# Altium integrated library Lattice ORCA Series 3.IntLib: 93 symbols (part 14 of 14)
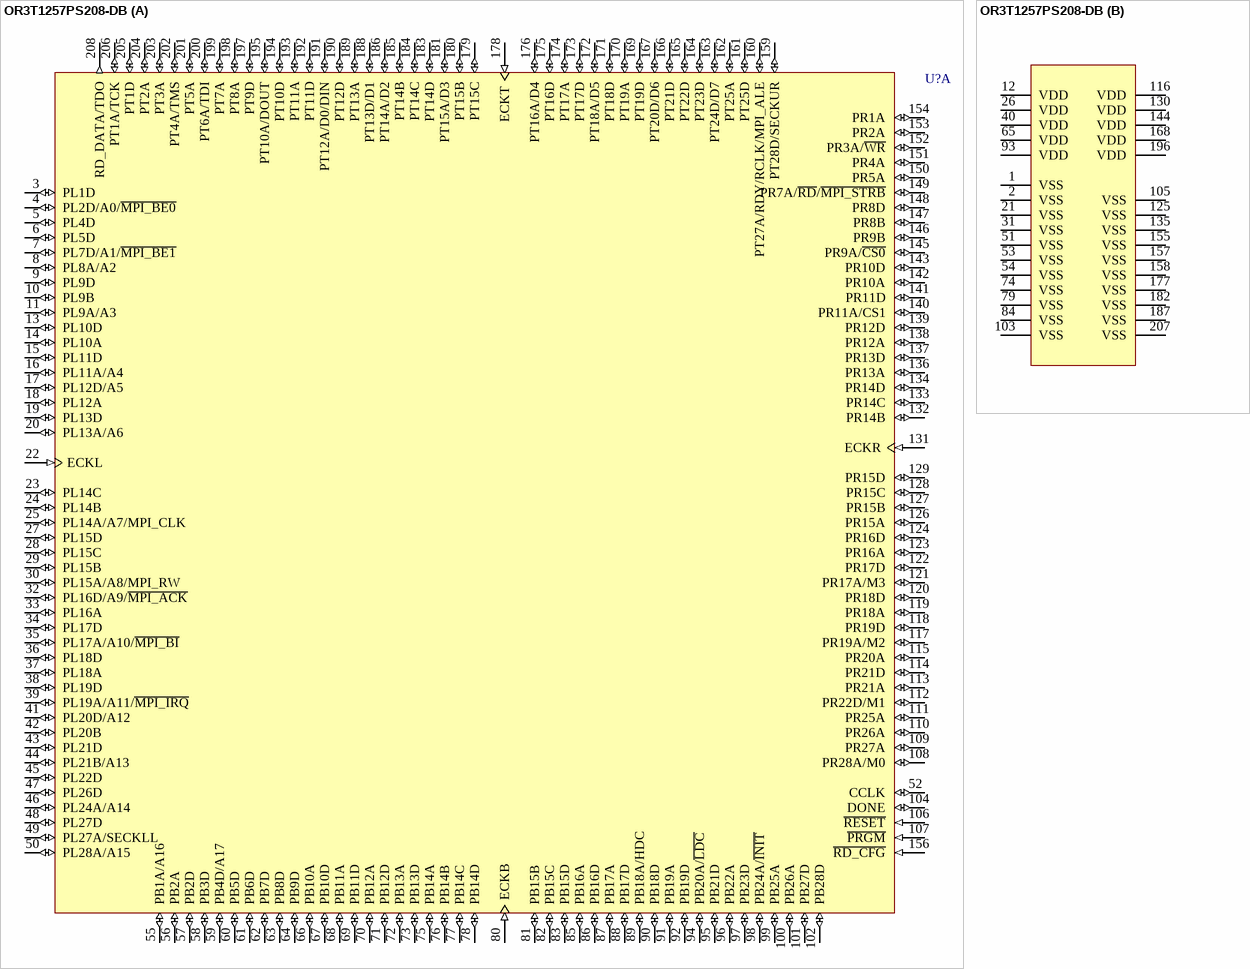
[diagram p149: symbol OR3T1257PS208-DB]

## OR3T1257PS208-DB
designator U?
ORCA Series 3T FPGA: 3.3 V, Commercial Grade, 452 I/Os.; Published: 21-May-2003; LatestRevisionDate: 13-Apr-2006; LatestRevisionNote: IPC-7351 Footprint Added.; DatasheetVersion: Dec-2002; PackageVersion: pkg_32, Aug-2005; PackageReference: PQFP208; Publisher: Altium Limited; PackageDescription: 208-Pin Plastic Quad Flat Pack (PQFP208); Code_JEDEC: MO-143-FAI; ComponentLink1Description: Manufacturer Link; ComponentLink1URL: http://www.latticesemi.com/products/fpga/orca/orca3/index.cfm; ComponentLink2Description: Datasheet; ComponentLink2URL: http://www.latticesemi.com/account/_download.cfm?AMID=3974; ComponentLink3Description: Lattice Login; ComponentLink3URL: http://www.latticesemi.com/account/login.cfm
footprint PQFP208_N (Shrink QFP, 208-Leads, Body 28x28mm, Pitch 0.5mm, IPC Medium Density)
footprint PQFP208_L (Shrink QFP, 208-Leads, Body 28x28mm, Pitch 0.5mm, IPC High Density)
footprint PQFP208_M (Shrink QFP, 208-Leads, Body 28x28mm, Pitch 0.5mm, IPC Low Density)
3D model OR3T125-PQFP208 (208-Pin Plastic Quad Flat Pack (PQFP208))
part A pins: 3 PL1D (io), 4 PL2D/A0/~{MPI_BE0} (io), 5 PL4D (io), 6 PL5D (io), 7 PL7D/A1/~{MPI_BE1} (io), 8 PL8A/A2 (io), 9 PL9D (io), 10 PL9B (io), 11 PL9A/A3 (io), 13 PL10D (io), 14 PL10A (io), 15 PL11D (io), 16 PL11A/A4 (io), 17 PL12D/A5 (io), 18 PL12A (io), 19 PL13D (io), 20 PL13A/A6 (io), 22 ECKL (in), 23 PL14C (io), 24 PL14B (io), 25 PL14A/A7/MPI_CLK (io), 27 PL15D (io), 28 PL15C (io), 29 PL15B (io), 30 PL15A/A8/MPI_RW (io), 32 PL16D/A9/~{MPI_ACK} (io), 33 PL16A (io), 34 PL17D (io), 35 PL17A/A10/~{MPI_BI} (io), 36 PL18D (io), 37 PL18A (io), 38 PL19D (io), 39 PL19A/A11/~{MPI_IRQ} (io), 41 PL20D/A12 (io), 42 PL20B (io), 43 PL21D (io), 44 PL21B/A13 (io), 45 PL22D (io), 46 PL24A/A14 (io), 47 PL26D (io), 48 PL27D (io), 49 PL27A/SECKLL (io), 50 PL28A/A15 (io), 52 CCLK (io), 55 PB1A/A16 (io), 56 PB2A (io), 57 PB2D (io), 58 PB3D (io), 59 PB4D/A17 (io), 60 PB5D (io), 61 PB6D (io), 62 PB7D (io), 63 PB8D (io), 64 PB9D (io), 66 PB10A (io), 67 PB10D (io), 68 PB11A (io), 69 PB11D (io), 70 PB12A (io), 71 PB12D (io), 72 PB13A (io), 73 PB13D (io), 75 PB14A (io), 76 PB14B (io), 77 PB14C (io), 78 PB14D (io), 80 ECKB (in), 81 PB15B (io), 82 PB15C (io), 83 PB15D (io), 85 PB16A (io), 86 PB16D (io), 87 PB17A (io), 88 PB17D (io), 89 PB18A/HDC (io), 90 PB18D (io), 91 PB19A (io), 92 PB19D (io), 94 PB20A/~{LDC} (io), 95 PB21D (io), 96 PB22A (io), 97 PB23D (io), 98 PB24A/~{INIT} (io), 99 PB25A (io), 100 PB26A (io), 101 PB27D (io), 102 PB28D (io), 104 DONE (io), 106 ~{RESET} (in), 107 ~{PRGM} (in), 108 PR28A/M0 (io), 109 PR27A (io), 110 PR26A (io), 111 PR25A (io), 112 PR22D/M1 (io), 113 PR21A (io), 114 PR21D (io), 115 PR20A (io), 117 PR19A/M2 (io), 118 PR19D (io), 119 PR18A (io), 120 PR18D (io), 121 PR17A/M3 (io), 122 PR17D (io), 123 PR16A (io), 124 PR16D (io), 126 PR15A (io), 127 PR15B (io), 128 PR15C (io), 129 PR15D (io), 131 ECKR (in), 132 PR14B (io), 133 PR14C (io), 134 PR14D (io), 136 PR13A (io), 137 PR13D (io), 138 PR12A (io), 139 PR12D (io), 140 PR11A/CS1 (io), 141 PR11D (io), 142 PR10A (io), 143 PR10D (io), 145 PR9A/~{CS0} (io), 146 PR9B (io), 147 PR8B (io), 148 PR8D (io), 149 PR7A/~{RD}/~{MPI_STRB} (io), 150 PR5A (io), 151 PR4A (io), 152 PR3A/~{WR} (io), 153 PR2A (io), 154 PR1A (io), 156 ~{RD_CFG} (in), 159 PT28D/SECKUR (io), 160 PT27A/RDY/RCLK/MPI_ALE (io), 161 PT25D (io), 162 PT25A (io), 163 PT24D/D7 (io), 164 PT23D (io), 165 PT22D (io), 166 PT21D (io), 167 PT20D/D6 (io), 169 PT19D (io), 170 PT19A (io), 171 PT18D (io), 172 PT18A/D5 (io), 173 PT17D (io), 174 PT17A (io), 175 PT16D (io), 176 PT16A/D4 (io), 178 ECKT (in), 179 PT15C (io), 180 PT15B (io), 181 PT15A/D3 (io), 183 PT14D (io), 184 PT14C (io), 185 PT14B (io), 186 PT14A/D2 (io), 188 PT13D/D1 (io), 189 PT13A (io), 190 PT12D (io), 191 PT12A/D0/DIN (io), 192 PT11D (io), 193 PT11A (io), 194 PT10D (io), 195 PT10A/DOUT (io), 197 PT9D (io), 198 PT8A (io), 199 PT7A (io), 200 PT6A/TDI (io), 201 PT5A (io), 202 PT4A/TMS (io), 203 PT3A (io), 204 PT2A (io), 205 PT1D (io), 206 PT1A/TCK (io), 208 RD_DATA/TDO (out)
part B pins: 1 VSS (power), 2 VSS (power), 12 VDD (power), 21 VSS (power), 26 VDD (power), 31 VSS (power), 40 VDD (power), 51 VSS (power), 53 VSS (power), 54 VSS (power), 65 VDD (power), 74 VSS (power), 79 VSS (power), 84 VSS (power), 93 VDD (power), 103 VSS (power), 105 VSS (power), 116 VDD (power), 125 VSS (power), 130 VDD (power), 135 VSS (power), 144 VDD (power), 155 VSS (power), 157 VSS (power), 158 VSS (power), 168 VDD (power), 177 VSS (power), 182 VSS (power), 187 VSS (power), 196 VDD (power), 207 VSS (power)

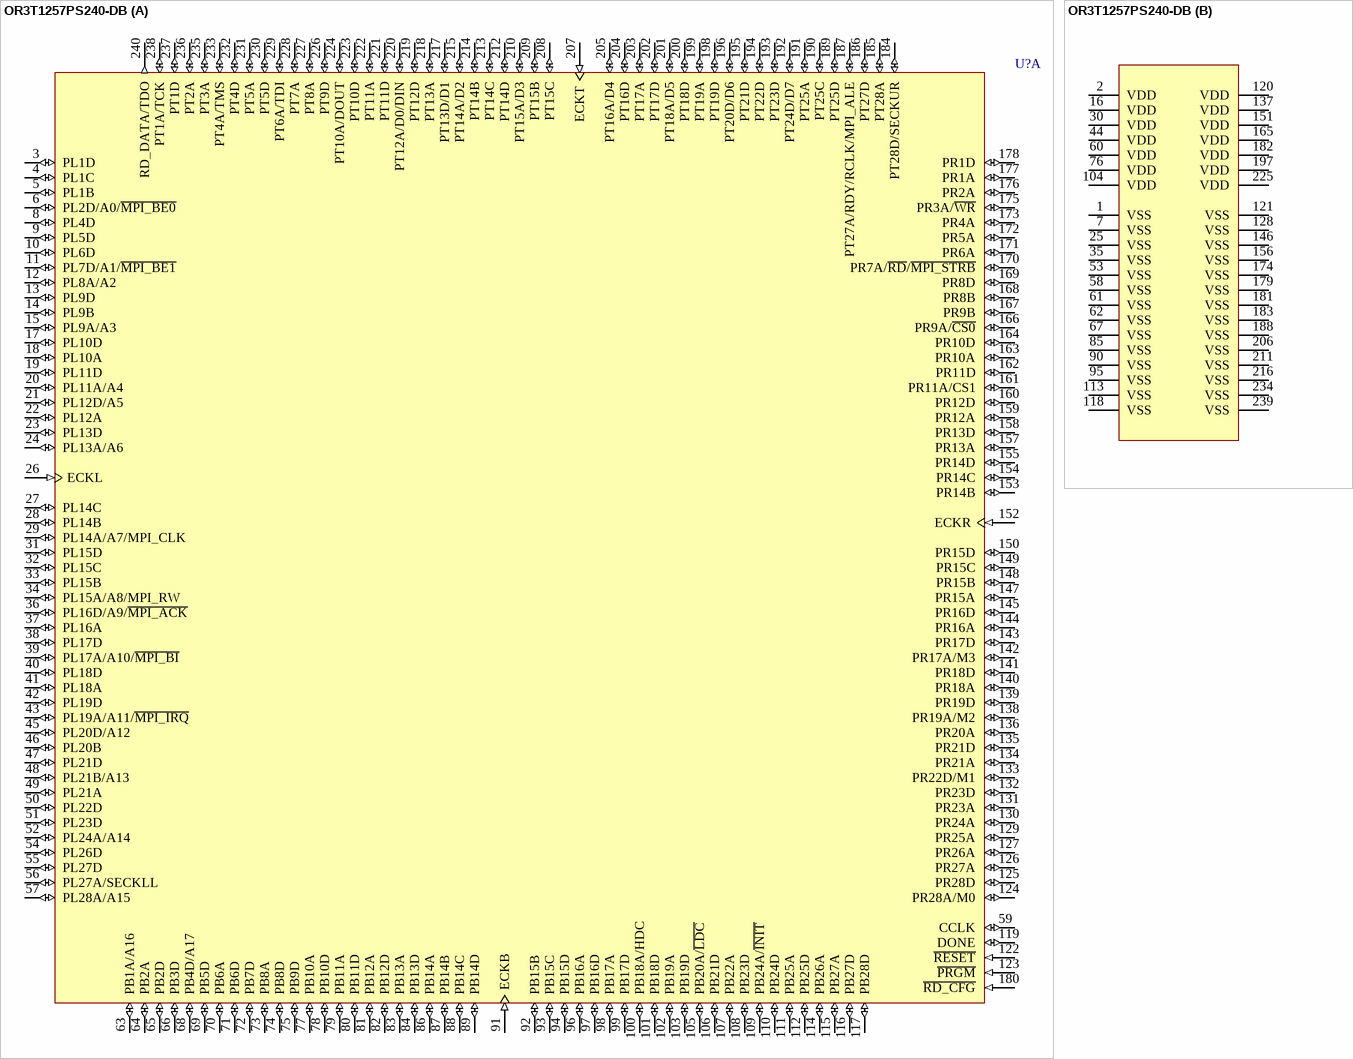
[diagram p136: symbol OR3T1257PS240-DB]

## OR3T1257PS240-DB
designator U?
ORCA Series 3T FPGA: 3.3 V, Commercial Grade, 452 I/Os.; Published: 21-May-2003; LatestRevisionDate: 13-Apr-2006; LatestRevisionNote: IPC-7351 Footprint Added.; DatasheetVersion: Dec-2002; PackageVersion: pkg_32, Aug-2005; PackageReference: PQFP240; Publisher: Altium Limited; PackageDescription: 240-Pin Shrink Quad Flat Pack 0.5 mm Pitch; ComponentLink1Description: Manufacturer Link; ComponentLink1URL: http://www.latticesemi.com/products/fpga/orca/orca3/index.cfm; ComponentLink2Description: Datasheet; ComponentLink2URL: http://www.latticesemi.com/account/_download.cfm?AMID=3974; ComponentLink3Description: Lattice Login; ComponentLink3URL: http://www.latticesemi.com/account/login.cfm
footprint PQFP240_N (Shrink QFP, 240-Leads, Body 32x32mm, Pitch 0.5mm, IPC Medium Density)
footprint PQFP240_L (Shrink QFP, 240-Leads, Body 32x32mm, Pitch 0.5mm, IPC High Density)
footprint PQFP240_M (Shrink QFP, 240-Leads, Body 32x32mm, Pitch 0.5mm, IPC Low Density)
3D model OR3T125-PQFP240 (240-Pin Shrink Quad Flat Pack 0.5 mm Pitch)
part A pins: 3 PL1D (io), 4 PL1C (io), 5 PL1B (io), 6 PL2D/A0/~{MPI_BE0} (io), 8 PL4D (io), 9 PL5D (io), 10 PL6D (io), 11 PL7D/A1/~{MPI_BE1} (io), 12 PL8A/A2 (io), 13 PL9D (io), 14 PL9B (io), 15 PL9A/A3 (io), 17 PL10D (io), 18 PL10A (io), 19 PL11D (io), 20 PL11A/A4 (io), 21 PL12D/A5 (io), 22 PL12A (io), 23 PL13D (io), 24 PL13A/A6 (io), 26 ECKL (in), 27 PL14C (io), 28 PL14B (io), 29 PL14A/A7/MPI_CLK (io), 31 PL15D (io), 32 PL15C (io), 33 PL15B (io), 34 PL15A/A8/MPI_RW (io), 36 PL16D/A9/~{MPI_ACK} (io), 37 PL16A (io), 38 PL17D (io), 39 PL17A/A10/~{MPI_BI} (io), 40 PL18D (io), 41 PL18A (io), 42 PL19D (io), 43 PL19A/A11/~{MPI_IRQ} (io), 45 PL20D/A12 (io), 46 PL20B (io), 47 PL21D (io), 48 PL21B/A13 (io), 49 PL21A (io), 50 PL22D (io), 51 PL23D (io), 52 PL24A/A14 (io), 54 PL26D (io), 55 PL27D (io), 56 PL27A/SECKLL (io), 57 PL28A/A15 (io), 59 CCLK (io), 63 PB1A/A16 (io), 64 PB2A (io), 65 PB2D (io), 66 PB3D (io), 68 PB4D/A17 (io), 69 PB5D (io), 70 PB6A (io), 71 PB6D (io), 72 PB7D (io), 73 PB8A (io), 74 PB8D (io), 75 PB9D (io), 77 PB10A (io), 78 PB10D (io), 79 PB11A (io), 80 PB11D (io), 81 PB12A (io), 82 PB12D (io), 83 PB13A (io), 84 PB13D (io), 86 PB14A (io), 87 PB14B (io), 88 PB14C (io), 89 PB14D (io), 91 ECKB (in), 92 PB15B (io), 93 PB15C (io), 94 PB15D (io), 96 PB16A (io), 97 PB16D (io), 98 PB17A (io), 99 PB17D (io), 100 PB18A/HDC (io), 101 PB18D (io), 102 PB19A (io), 103 PB19D (io), 105 PB20A/~{LDC} (io), 106 PB21D (io), 107 PB22A (io), 108 PB23D (io), 109 PB24A/~{INIT} (io), 110 PB24D (io), 111 PB25A (io), 112 PB25D (io), 114 PB26A (io), 115 PB27A (io), 116 PB27D (io), 117 PB28D (io), 119 DONE (io), 122 ~{RESET} (in), 123 ~{PRGM} (in), 124 PR28A/M0 (io), 125 PR28D (io), 126 PR27A (io), 127 PR26A (io), 129 PR25A (io), 130 PR24A (io), 131 PR23A (io), 132 PR23D (io), 133 PR22D/M1 (io), 134 PR21A (io), 135 PR21D (io), 136 PR20A (io), 138 PR19A/M2 (io), 139 PR19D (io), 140 PR18A (io), 141 PR18D (io), 142 PR17A/M3 (io), 143 PR17D (io), 144 PR16A (io), 145 PR16D (io), 147 PR15A (io), 148 PR15B (io), 149 PR15C (io), 150 PR15D (io), 152 ECKR (in), 153 PR14B (io), 154 PR14C (io), 155 PR14D (io), 157 PR13A (io), 158 PR13D (io), 159 PR12A (io), 160 PR12D (io), 161 PR11A/CS1 (io), 162 PR11D (io), 163 PR10A (io), 164 PR10D (io), 166 PR9A/~{CS0} (io), 167 PR9B (io), 168 PR8B (io), 169 PR8D (io), 170 PR7A/~{RD}/~{MPI_STRB} (io), 171 PR6A (io), 172 PR5A (io), 173 PR4A (io), 175 PR3A/~{WR} (io), 176 PR2A (io), 177 PR1A (io), 178 PR1D (io), 180 ~{RD_CFG} (in), 184 PT28D/SECKUR (io), 185 PT28A (io), 186 PT27D (io), 187 PT27A/RDY/RCLK/MPI_ALE (io), 189 PT25D (io), 190 PT25C (io), 191 PT25A (io), 192 PT24D/D7 (io), 193 PT23D (io), 194 PT22D (io), 195 PT21D (io), 196 PT20D/D6 (io), 198 PT19D (io), 199 PT19A (io), 200 PT18D (io), 201 PT18A/D5 (io), 202 PT17D (io), 203 PT17A (io), 204 PT16D (io), 205 PT16A/D4 (io), 207 ECKT (in), 208 PT15C (io), 209 PT15B (io), 210 PT15A/D3 (io), 212 PT14D (io), 213 PT14C (io), 214 PT14B (io), 215 PT14A/D2 (io), 217 PT13D/D1 (io), 218 PT13A (io), 219 PT12D (io), 220 PT12A/D0/DIN (io), 221 PT11D (io), 222 PT11A (io), 223 PT10D (io), 224 PT10A/DOUT (io), 226 PT9D (io), 227 PT8A (io), 228 PT7A (io), 229 PT6A/TDI (io), 230 PT5D (io), 231 PT5A (io), 232 PT4D (io), 233 PT4A/TMS (io), 235 PT3A (io), 236 PT2A (io), 237 PT1D (io), 238 PT1A/TCK (io), 240 RD_DATA/TDO (out)
part B pins: 1 VSS (power), 2 VDD (power), 7 VSS (power), 16 VDD (power), 25 VSS (power), 30 VDD (power), 35 VSS (power), 44 VDD (power), 53 VSS (power), 58 VSS (power), 60 VDD (power), 61 VSS (power), 62 VSS (power), 67 VSS (power), 76 VDD (power), 85 VSS (power), 90 VSS (power), 95 VSS (power), 104 VDD (power), 113 VSS (power), 118 VSS (power), 120 VDD (power), 121 VSS (power), 128 VSS (power), 137 VDD (power), 146 VSS (power), 151 VDD (power), 156 VSS (power), 165 VDD (power), 174 VSS (power), 179 VSS (power), 181 VSS (power), 182 VDD (power), 183 VSS (power), 188 VSS (power), 197 VDD (power), 206 VSS (power), 211 VSS (power), 216 VSS (power), 225 VDD (power), 234 VSS (power), 239 VSS (power)